# Altium schematic symbol library Demo_Board_library_SCH.SchLib: 41 symbols
Pins are listed as number, name and electrical type; pins without a type are passive.

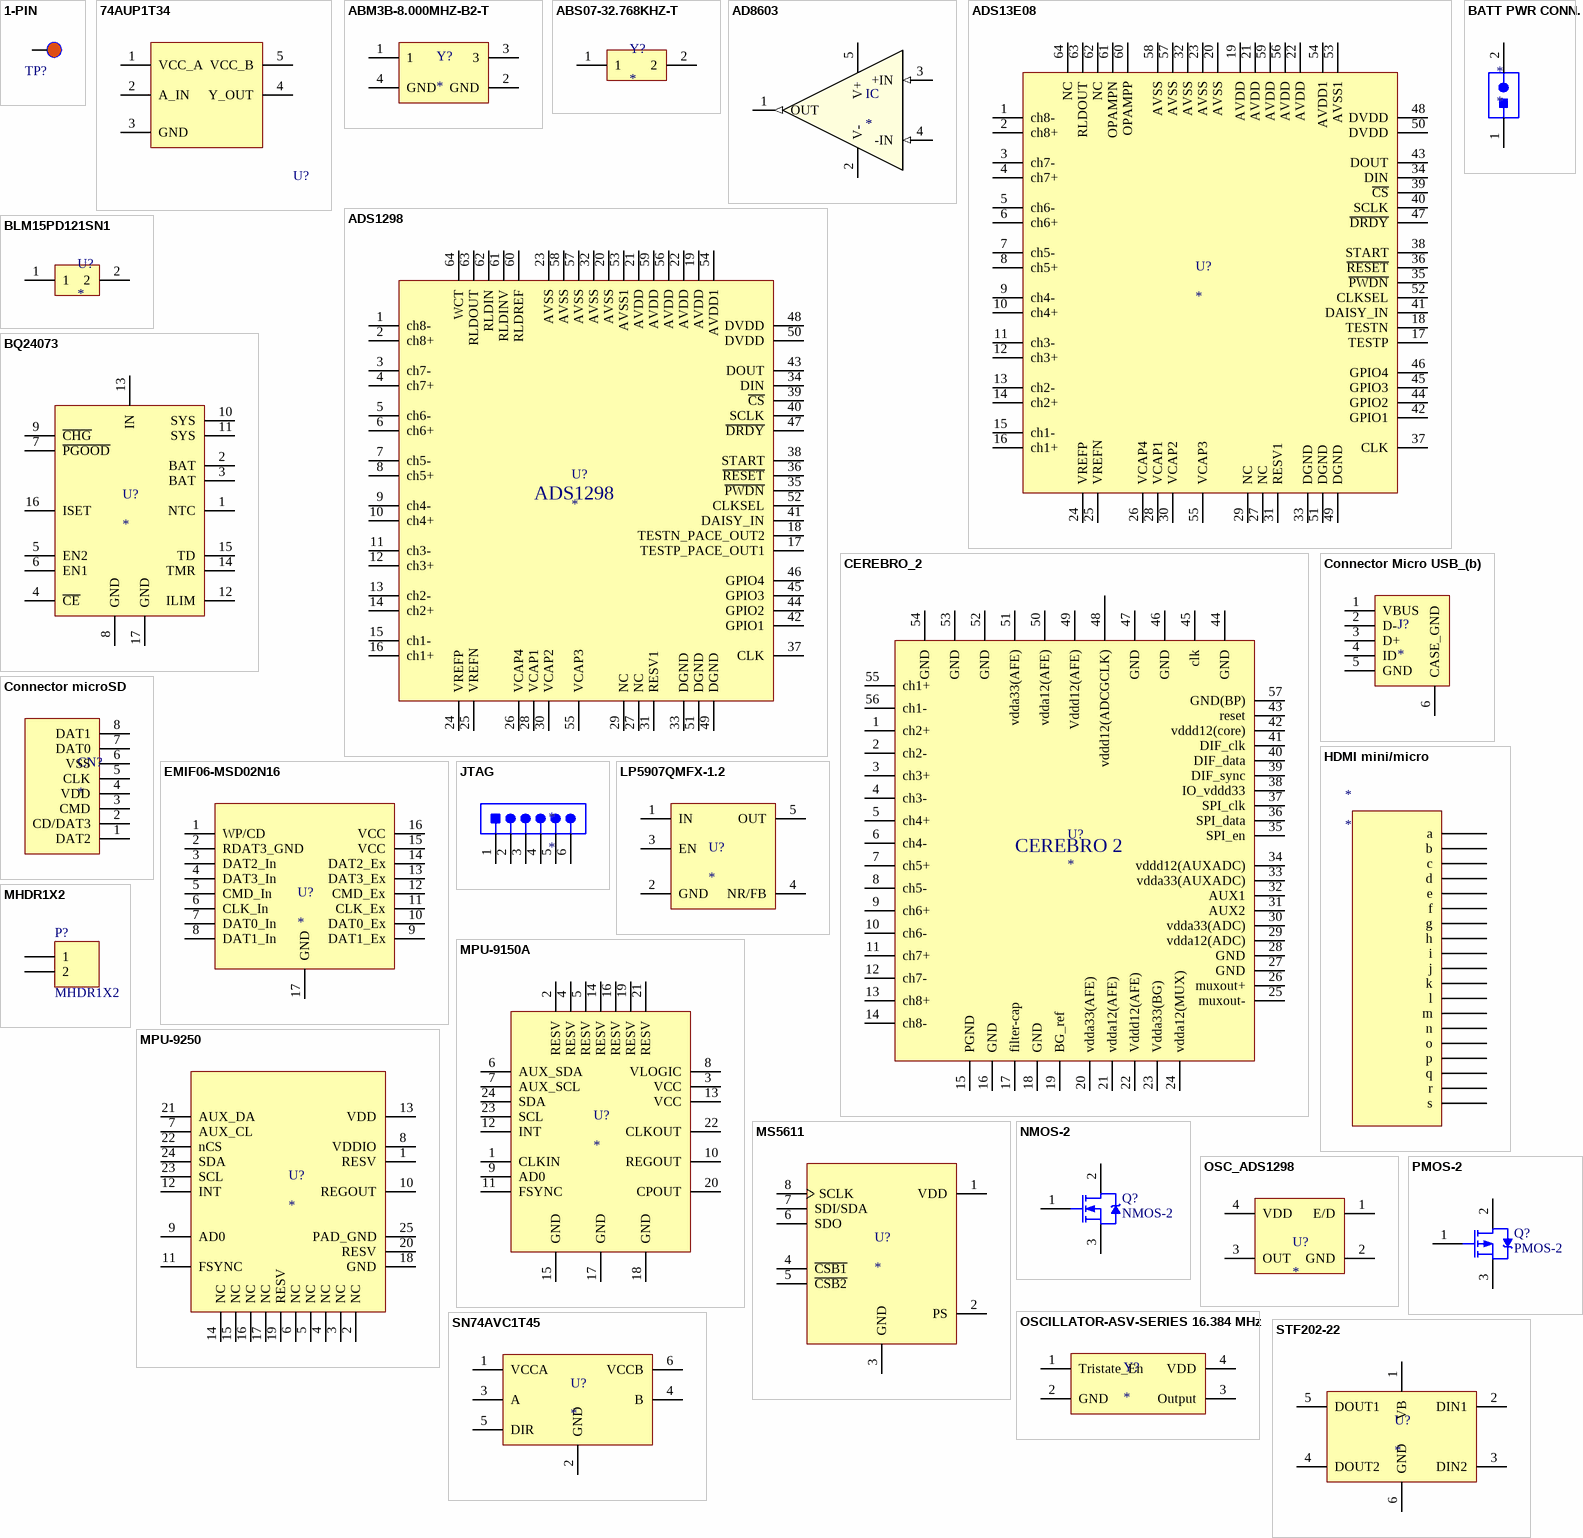
[diagram p0: symbols 1-PIN to STF202-22]

## 1-PIN
designator TP?  (value not drawn)
footprint Testpt_055
pins: 1

## 74AUP1T34
designator U?  (value not drawn)
footprint TSSOP5 (TSSOP5, 6-Leads, Body 2,05x1,23mm, Pitch 0,65mm, IPC Medium Density)
pins: 1 VCC_A, 2 A_IN, 3 GND, 4 Y_OUT, 5 VCC_B

## ABM3B-8.000MHZ-B2-T
designator Y?
ABM3B-8.000MHZ-B2-T
footprint ABM3B (Footprint oscillatore ABM3B-8.000MHZ-B2-T del micro)
pins: 1, 2 GND, 3, 4 GND

## ABS07-32.768KHZ-T
designator Y?
ABS07-32.768KHZ-T
footprint ABS07-32.768KHZ-T (ABS07-32.768KHZ-T per micro)
pins: 1, 2

## AD8603
designator IC
footprint SOT_23__DBV_(R - PDSO - G5)
pins: 1 OUT (out), 2 V- (power), 3 +IN (in), 4 -IN (in), 5 V+

## ADS13E08
designator U?
ADS13E08
footprint QFN56 (QFN, 56-Leads, Body 8.0x8.0mm (max), Pitch 0.50mm, IPC Medium Density)
pins: 1 ch8-, 2 ch8+, 3 ch7-, 4 ch7+, 5 ch6-, 6 ch6+, 7 ch5-, 8 ch5+, 9 ch4-, 10 ch4+, 11 ch3-, 12 ch3+, 13 ch2-, 14 ch2+, 15 ch1-, 16 ch1+, 17 TESTP, 18 TESTN, 19 AVDD, 20 AVSS, 21 AVDD, 22 AVDD, 23 AVSS, 24 VREFP, 25 VREFN, 26 VCAP4, 27 NC, 28 VCAP1, 29 NC, 30 VCAP2, 31 RESV1, 32 AVSS, 33 DGND, 34 DIN, 35 ~{PWDN}, 36 ~{RESET}, 37 CLK, 38 START, 39 ~{CS}, 40 SCLK, 41 DAISY_IN, 42 GPIO1, 43 DOUT, 44 GPIO2, 45 GPIO3, 46 GPIO4, 47 ~{DRDY}, 48 DVDD, 49 DGND, 50 DVDD, 51 DGND, 52 CLKSEL, 53 AVSS1, 54 AVDD1, 55 VCAP3, 56 AVDD, 57 AVSS, 58 AVSS, 59 AVDD, 60 OPAMPP, 61 OPAMPN, 62 NC, 63 RLDOUT, 64 NC

## ADS1298
designator U?
ADS1298
footprint QFN56 (QFN, 56-Leads, Body 8.0x8.0mm (max), Pitch 0.50mm, IPC Medium Density)
pins: 1 ch8-, 2 ch8+, 3 ch7-, 4 ch7+, 5 ch6-, 6 ch6+, 7 ch5-, 8 ch5+, 9 ch4-, 10 ch4+, 11 ch3-, 12 ch3+, 13 ch2-, 14 ch2+, 15 ch1-, 16 ch1+, 17 TESTP_PACE_OUT1, 18 TESTN_PACE_OUT2, 19 AVDD, 20 AVSS, 21 AVDD, 22 AVDD, 23 AVSS, 24 VREFP, 25 VREFN, 26 VCAP4, 27 NC, 28 VCAP1, 29 NC, 30 VCAP2, 31 RESV1, 32 AVSS, 33 DGND, 34 DIN, 35 ~{PWDN}, 36 ~{RESET}, 37 CLK, 38 START, 39 ~{CS}, 40 SCLK, 41 DAISY_IN, 42 GPIO1, 43 DOUT, 44 GPIO2, 45 GPIO3, 46 GPIO4, 47 ~{DRDY}, 48 DVDD, 49 DGND, 50 DVDD, 51 DGND, 52 CLKSEL, 53 AVSS1, 54 AVDD1, 55 VCAP3, 56 AVDD, 57 AVSS, 58 AVSS, 59 AVDD, 60 RLDREF, 61 RLDINV, 62 RLDIN, 63 RLDOUT, 64 WCT

## BATT PWR CONN.
designator *
footprint BATTERY POWER
pins: 1, 2

## BLM15PD121SN1
designator U?
footprint BLM15PD121SN1 (Chip Inductor, 2-Leads, Body 1,00x0,50mm, IPC Medium Density)
pins: 1, 2

## BQ24073
designator U?
Power Supply
footprint QFN-16__RGT( S-PVQFN-N16) (Footoprint BQ24073)
pins: 1 NTC, 2 BAT, 3 BAT, 4 ~{CE}, 5 EN2, 6 EN1, 7 ~{PGOOD}, 8 GND, 9 ~{CHG}, 10 SYS, 11 SYS, 12 ILIM, 13 IN, 14 TMR, 15 TD, 16 ISET, 17 GND

## CEREBRO_2
designator U?
CEREBRO
footprint QFN56 (QFN, 56-Leads, Body 8.0x8.0mm (max), Pitch 0.50mm, IPC Medium Density)
pins: 1 ch2+, 2 ch2-, 3 ch3+, 4 ch3-, 5 ch4+, 6 ch4-, 7 ch5+, 8 ch5-, 9 ch6+, 10 ch6-, 11 ch7+, 12 ch7-, 13 ch8+, 14 ch8-, 15 PGND, 16 GND, 17 filter-cap, 18 GND, 19 BG_ref, 20 vdda33(AFE), 21 vdda12(AFE), 22 Vddd12(AFE), 23 Vdda33(BG), 24 vdda12(MUX), 25 muxout-, 26 muxout+, 27 GND, 28 GND, 29 vdda12(ADC), 30 vdda33(ADC), 31 AUX2, 32 AUX1, 33 vdda33(AUXADC), 34 vddd12(AUXADC), 35 SPI_en, 36 SPI_data, 37 SPI_clk, 38 IO_vddd33, 39 DIF_sync, 40 DIF_data, 41 DIF_clk, 42 vddd12(core), 43 reset, 44 GND, 45 clk, 46 GND, 47 GND, 48 vddd12(ADCGCLK), 49 Vddd12(AFE), 50 vdda12(AFE), 51 vdda33(AFE), 52 GND, 53 GND, 54 GND, 55 ch1+, 56 ch1-, 57 GND(BP)
text: CEREBRO 2

## Connector Micro USB_(b)
designator J?
CONNECTOR MICRO USB
footprint CONNECTOR_MICRO_USB_B_TYPE (connettore micro usb B type)
pins: 1 VBUS, 2 D-, 3 D+, 4 ID, 5 GND, 6 CASE_GND

## Connector microSD
designator CN?
CONNECTOR_MICROSD
footprint CONNECTOR_MICRO_SDCARD (Connector micro sd with switches and fly out protection)
pins: 1 DAT2, 2 CD/DAT3, 3 CMD, 4 VDD, 5 CLK, 6 VSS, 7 DAT0, 8 DAT1

## EMIF06-MSD02N16
designator U?
FILTER_MICROSD
footprint micro QFN 3.5X1.2 16L (footprint EMIF06-MSD02N16)
pins: 1 WP/CD, 2 RDAT3_GND, 3 DAT2_In, 4 DAT3_In, 5 CMD_In, 6 CLK_In, 7 DAT0_In, 8 DAT1_In, 9 DAT1_Ex, 10 DAT0_Ex, 11 CLK_Ex, 12 CMD_Ex, 13 DAT3_Ex, 14 DAT2_Ex, 15 VCC, 16 VCC, 17 GND

## HDMI mini/micro
designator *
footprint new_HDMI mini/micro
pins: 0 hidden to GND, a, b, c, d, e, f, g, h, i, j, k, l, m, n, o, p, q, r, s

## JTAG
designator *
footprint JTAG
pins: 1, 2, 3, 4, 5, 6

## LP5907QMFX-1.2
designator U?
Linear Regulator
footprint SOT23__DDC__(R - PDSO-  G5)
pins: 1 IN, 2 GND, 3 EN, 4 NR/FB, 5 OUT

## MHDR1X2
designator P?
Header, 2-Pin; LatestRevisionDate: 17-Jul-2002; LatestRevisionNote: Re-released for DXP Platform.; Publisher: Altium Limited
footprint MHDR1X2 (Connector; Header; 2 Position)
signal-integrity model Connector
pins: 1, 2

## MPU-9150A
designator U?
IMU
footprint MPU-9150_component_wizard_QFN (footprint imu)
pins: 1 CLKIN, 2 RESV, 3 VCC, 4 RESV, 5 RESV, 6 AUX_SDA, 7 AUX_SCL, 8 VLOGIC, 9 AD0, 10 REGOUT, 11 FSYNC, 12 INT, 13 VCC, 14 RESV, 15 GND, 16 RESV, 17 GND, 18 GND, 19 RESV, 20 CPOUT, 21 RESV, 22 CLKOUT, 23 SCL, 24 SDA

## MPU-9250
designator U?
IMU
footprint MPU-9150_component_wizard_QFN (footprint imu)
pins: 1 RESV, 2 NC, 3 NC, 4 NC, 5 NC, 6 NC, 7 AUX_CL, 8 VDDIO, 9 AD0, 10 REGOUT, 11 FSYNC, 12 INT, 13 VDD, 14 NC, 15 NC, 16 NC, 17 NC, 18 GND, 19 RESV, 20 RESV, 21 AUX_DA, 22 nCS, 23 SCL, 24 SDA, 25 PAD_GND

## MS5611
designator U?
SENSORE PRESSIONE
footprint MS5611-01BA03 (footprint sensore pressione)
pins: 1 VDD, 2 PS, 3 GND, 4 ~{CSB1}, 5 ~{CSB2}, 6 SDO, 7 SDI/SDA, 8 SCLK

## NMOS-2
designator Q?
N-Channel Power MOSFET; Note: Pin 2 is electrically connected to pin 4.; Published: 8-Jun-2000; LatestRevisionDate: 17-Jul-2002; LatestRevisionNote: Re-released for DXP Platform.; DatasheetVersion: PD-9.814; PackageVersion: Feb-1997; PackageReference: TO-220AB; Publisher: Altium Limited; PackageDescription: TO, Thru-Hole, Vertical, Heatsink Mounted; 3 In-Line Leads; Pitch 2.54 mm; ComponentLink1Description: Manufacturer Link; ComponentLink1URL: http://www.irf.com/
footprint SOT23__fdn (Footprint PMOS ed NMOS Misurazione batteria)
simulation model IRF1010 (Spice Subcircuit)
pins: 1 G, 2 D, 3 S

## OSC_ADS1298
designator U?
Linear Regulator
footprint SOT23__DDC__(R - PDSO-  G5)
pins: 1 E/D, 2 GND, 3 OUT, 4 VDD

## OSCILLATOR-ASV-SERIES 16.384 MHz
designator Y?
OSCILLATOR-ASV-SERIES 16.384 MHz
footprint ABRACON_ASV series (Oscillatore CEREBRO)
pins: 1 Tristate_En, 2 GND, 3 Output, 4 VDD

## PMOS-2
designator Q?
P-Channel Power MOSFET; Note: Pin 4 not drawn and electrically connected to Pin 2.; Published: 8-Jun-2000; LatestRevisionDate: 17-Jul-2002; LatestRevisionNote: Re-released for DXP Platform.; DatasheetVersion: PD-9.390D; PackageVersion: Feb-1997; PackageReference: TO-220AB; Publisher: Altium Limited; PackageDescription: TO, Thru-Hole, Vertical, Heatsink Mounted; 3 In-Line Leads; Pitch 2.54 mm; ComponentLink1Description: Manufacturer Link; ComponentLink1URL: http://www.irf.com/
footprint TO-220AB (TO, Thru-Hole, Vertical, Heatsink Mounted; 3 In-Line Leads; Pitch 2.54 mm)
simulation model IRF9510 (Spice Subcircuit)
footprint SOT23__fdn (Footprint PMOS ed NMOS Misurazione batteria)
pins: 1 G, 2 D, 3 S

## SN74AVC1T45
designator U?
footprint SOT23__DBV_(R - PDSO - G6)
pins: 1 VCCA, 2 GND, 3 A, 4 B, 5 DIR, 6 VCCB

## STF202-22
designator U?
USB FILTER
footprint SOT23__DBV_(R - PDSO - G6)
pins: 1 VB, 2 DIN1, 3 DIN2, 4 DOUT2, 5 DOUT1, 6 GND

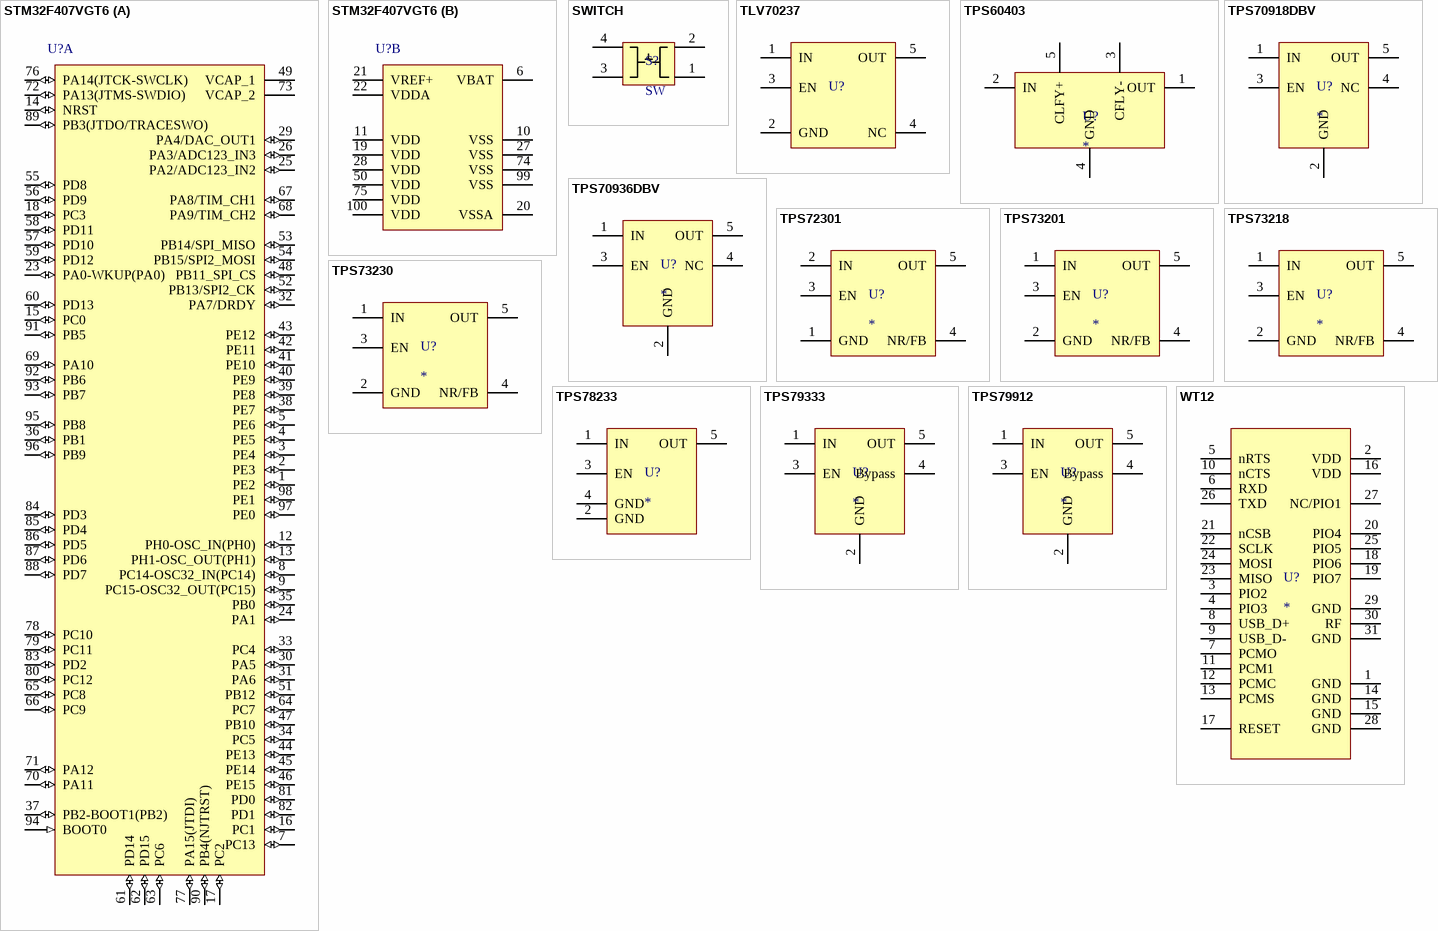
[diagram p1: symbols STM32F407VGT6 to WT12]

## STM32F407VGT6
designator U?
ARM Cortex-M4 32-bit MCU+FPU, 210 DMIPS, 1024 kB Flash, 192 kB Internal RAM, 82 I/Os, 100-pin LQFP, -40 to 85 degC, Tray; Manufacturer: STMicroelectronics; PartNumber: STM32F407VGT6; D/A Converter: 2x12-bit; FLASH Size (Prog) (kB): 1024; I/Os (High Current): 82; Internal RAM Size (kB): 192; Operating Frequency(F) (Processor speed) (MHz): 168; Supply Voltage(Vcc) max (V): 3.6; Supply Voltage(Vcc) min (V): 1.8; DatasheetVersion: Rev. 4; PackageVersion: Rev. 1, 06/2013; PackageReference: LQFP100; PackageDescription: 100-Pin Low Profile Quad Flat Package, 14 x 14 mm Body, 0.5 mm Pitch; Supplier 1: Digi-Key; Supplier Part Number 1: 497-11605-ND; Supplier 2: Farnell; Supplier Part Number 2: 2064368; Supplier 3: Newark; Supplier Part Number 3: 73T2333; Supplier 4: Mouser; Supplier Part Number 4: 511-STM32F407VGT6; Core: ARM Cortex-M4; Packing: Tray; Mounting Technology: Surface Mount; ComponentLink1Description: Manufacturer URL; ComponentLink1URL: http://www.st.com/web/en/home.html; ComponentLink2Description: Datasheet; ComponentLink2URL: http://www.st.com/st-web-ui/static/active/en/resource/technical/document/datasheet/DM00037051.pdf; ComponentLink3Description: Package Specification; ComponentLink3URL: http://www.st.com/st-web-ui/static/active/en/resource/technical/document/data_brief/DM00071938.pdf
footprint STM-LQFP100_L (Thin QFP, 100-Leads, Body 14x14mm, Pitch 0.5mm, IPC High Density)
footprint STM-LQFP100_L (Thin QFP, 100-Leads, Body 14x14mm, Pitch 0.5mm, IPC High Density)
footprint STM-LQFP100_M (Thin QFP, 100-Leads, Body 14x14mm, Pitch 0.5mm, IPC Low Density)
footprint STM-LQFP100_V (Thin QFP, 100-Leads, Body 14x14mm, Pitch 0.5mm, ST Recommended)
part A pins: 1 PE2 (io) "PE2/TRACECLK/FSMC_A23/ETH_MII_TXD3/EVENTOUT", 2 PE3 (io) "PE3/TRACED0/FSMC_A19/EVENTOUT", 3 PE4 (io) "PE4/TRACED1/FSMC_A20/DCMI_D4/EVENTOUT", 4 PE5 (io) "PE5/TRACED2/FSMC_A21/TIM9_CH1/DCMI_D6/EVENTOUT", 5 PE6 (io) "PE6/TRACED3/FSMC_A22/TIM9_CH2/DCMI_D7/EVENTOUT", 7 PC13 (io) "PC13/EVENTOUT/RTC_OUT,RTC_TAMP1,RTC_TS", 8 PC14-OSC32_IN(PC14) (io) "PC14-OSC32_IN(PC14)/EVENTOUT/OSC32_IN", 9 PC15-OSC32_OUT(PC15) (io) "PC15-OSC32_OUT(PC15)/EVENTOUT/OSC32_OUT", 12 PH0-OSC_IN(PH0) (io) "PH0-OSC_IN(PH0)/EVENTOUT/OSC_IN", 13 PH1-OSC_OUT(PH1) (io) "PH1-OSC_OUT(PH1)/EVENTOUT/OSC_OUT", 14 NRST (io), 15 PC0 (io) "PC0/OTG_HS_ULPI_STP/EVENTOUT/ADC123_IN10", 16 PC1 (io) "PC1/ETH_MDC/EVENTOUT/ADC123_IN11", 17 PC2 (io) "PC2/SPI2_MISO/OTG_HS_ULPI_DIR/ETH_MII_TXD2/I2S2ext_SD/EVENTOUT/ADC123_IN12", 18 PC3 (io) "PC3/SPI2_MOSI/I2S2_SD/OTG_HS_ULPI_NXT/ETH_MII_TX_CLK/EVENTOUT/ADC123_IN13", 23 PA0-WKUP(PA0) (io) "PA0-WKUP(PA0)/USART2_CTS/UART4_TX/ETH_MII_CRS/TIM2_CH1_ETR/TIM5_CH1/TIM8_ETR/EVENTOUT/ADC123_IN0/WKUP", 24 PA1 (io) "PA1/USART2_RTS/UART4_RX/ETH_RMII_REF_CLK/ETH_MII_RX_CLK/TIM5_CH2/TIM2_CH2/EVENTOUT/ADC123_IN1", 25 PA2/ADC123_IN2 (io) "PA2/USART2_TX/TIM5_CH3/TIM9_CH1/TIM2_CH3/ETH_MDIO/EVENTOUT/ADC123_IN2", 26 PA3/ADC123_IN3 (io) "PA3/USART2_RX/TIM5_CH4/TIM9_CH2/TIM2_CH4/OTG_HS_ULPI_D0/ETH_MII_COL/EVENTOUT/ADC123_IN3", 29 PA4/DAC_OUT1 (io) "PA4/SPI1_NSS/SPI3_NSS/USART2_CK/DCMI_HSYNC/OTG_HS_SOF/I2S3_WS/EVENTOUT/ADC12_IN4/DAC_OUT1", 30 PA5 (io) "PA5/SPI1_SCK/OTG_HS_ULPI_CK/TIM2_CH1_ETR/TIM8_CH1N/EVENTOUT/ADC12_IN5/DAC_OUT2", 31 PA6 (io) "PA6/SPI1_MISO/TIM8_BKIN/TIM13_CH1/DCMI_PIXCLK/TIM3_CH1/TIM1_BKIN/EVENTOUT/ADC12_IN6", 32 PA7/DRDY (io) "PA7/SPI1_MOSI/TIM8_CH1N/TIM14_CH1/TIM3_CH2/ETH_MII_RX_DV/TIM1_CH1N/ETH_RMII_CRS_DV/EVENTOUT/ADC12_IN7", 33 PC4 (io) "PC4/ETH_RMII_RX_D0/ETH_MII_RX_D0/EVENTOUT/ADC12_IN14", 34 PC5 (io) "PC5/ETH_RMII_RX_D1/ETH_MII_RX_D1/EVENTOUT/ADC12_IN15", 35 PB0 (io) "PB0/TIM3_CH3/TIM8_CH2N/OTG_HS_ULPI_D1/ETH_MII_RXD2/TIM1_CH2N/EVENTOUT/ADC12_IN8", 36 PB1 (io) "PB1/TIM3_CH4/TIM8_CH3N/OTG_HS_ULPI_D2/ETH_MII_RXD3/TIM1_CH3N/EVENTOUT/ADC12_IN9", 37 PB2-BOOT1(PB2) (io) "PB2-BOOT1(PB2)/EVENTOUT", 38 PE7 (io) "PE7/FSMC_D4/TIM1_ETR/EVENTOUT", 39 PE8 (io) "PE8/FSMC_D5/TIM1_CH1N/EVENTOUT", 40 PE9 (io) "PE9/FSMC_D6/TIM1_CH1/EVENTOUT", 41 PE10 (io) "PE10/FSMC_D7/TIM1_CH2N/EVENTOUT", 42 PE11 (io) "PE11/FSMC_D8/TIM1_CH2/EVENTOUT", 43 PE12 (io) "PE12/FSMC_D9/TIM1_CH3N/EVENTOUT", 44 PE13 (io) "PE13/FSMC_D10/TIM1_CH3/EVENTOUT", 45 PE14 (io) "PE14/FSMC_D11/TIM1_CH4/EVENTOUT", 46 PE15 (io) "PE15/FSMC_D12/TIM1_BKIN/EVENTOUT", 47 PB10 (io) "PB10/SPI2_SCK/I2S2_CK/I2C2_SCL/USART3_TX/OTG_HS_ULPI_D3/ETH_MII_RX_ER/TIM2_CH3/EVENTOUT", 48 PB11_SPI_CS (io) "PB11/I2C2_SDA/USART3_RX/OTG_HS_ULPI_D4/ETH_RMII_TX_EN/ETH_MII_TX_EN/TIM2_CH4/EVENTOUT", 49 VCAP_1 (power), 51 PB12 (io) "PB12/SPI2_NSS/I2S2_WS/I2C2_SMBA/USART3_CK/TIM1_BKIN/CAN2_RX/OTG_HS_ULPI_D5/ETH_RMII_TXD0/ETH_MII_TXD0/OTG_HS_ID/EVENTOUT", 52 PB13/SPI2_CK (io) "PB13/SPI2_SCK/I2S2_CK/USART3_CTS/TIM1_CH1N/CAN2_TX/OTG_HS_ULPI_D6/ETH_RMII_TXD1/ETH_MII_TXD1/EVENTOUT/OTG_HS_VBUS", 53 PB14/SPI_MISO (io) "PB14/SPI2_MISO/TIM1_CH2N/TIM12_CH1/OTG_HS_DM/USART3_RTS/TIM8_CH2N/I2S2ext_SD/EVENTOUT", 54 PB15/SPI2_MOSI (io) "PB15/SPI2_MOSI/I2S2_SD/TIM1_CH3N/TIM8_CH3N/TIM12_CH2/OTG_HS_DP/EVENTOUT/RTC_REFIN", 55 PD8 (io) "PD8/FSMC_D13/USART3_TX/EVENTOUT", 56 PD9 (io) "PD9/FSMC_D14/USART3_RX/EVENTOUT", 57 PD10 (io) "PD10/FSMC_D15/USART3_CK/EVENTOUT", 58 PD11 (io) "PD11/FSMC_CLE/FSMC_A16/USART3_CTS/EVENTOUT", 59 PD12 (io) "PD12/FSMC_ALE/FSMC_A17/TIM4_CH1/USART3_RTS/EVENTOUT", 60 PD13 (io) "PD13/FSMC_A18/TIM4_CH2/EVENTOUT", 61 PD14 (io) "PD14/FSMC_D0/TIM4_CH3/EVENTOUT", 62 PD15 (io) "PD15/FSMC_D1/TIM4_CH4/EVENTOUT", 63 PC6 (io) "PC6/I2S2_MCK/TIM8_CH1/SDIO_D6/USART6_TX/DCMI_D0/TIM3_CH1/EVENTOUT", 64 PC7 (io) "PC7/I2S3_MCK/TIM8_CH2/SDIO_D7/USART6_RX/DCMI_D1/TIM3_CH2/EVENTOUT", 65 PC8 (io) "PC8/TIM8_CH3/SDIO_D0/TIM3_CH3/USART6_CK/DCMI_D2/EVENTOUT", 66 PC9 (io) "PC9/I2S_CKIN/MCO2/TIM8_CH4/SDIO_D1/I2C3_SDA/DCMI_D3/TIM3_CH4/EVENTOUT", 67 PA8/TIM_CH1 (io) "PA8/MCO1/USART1_CK/TIM1_CH1/I2C3_SCL/OTG_FS_SOF/EVENTOUT", 68 PA9/TIM_CH2 (io) "PA9/USART1_TX/TIM1_CH2/I2C3_SMBA/DCMI_D0/EVENTOUT/OTG_FS_VBUS", 69 PA10 (io) "PA10/USART1_RX/TIM1_CH3/OTG_FS_ID/DCMI_D1/EVENTOUT", 70 PA11 (io) "PA11/USART1_CTS/CAN1_RX/TIM1_CH4/OTG_FS_DM/EVENTOUT", 71 PA12 (io) "PA12/USART1_RTS/CAN1_TX/TIM1_ETR/OTG_FS_DP/EVENTOUT", 72 PA13(JTMS-SWDIO) (io) "PA13(JTMS-SWDIO)/JTMS-SWDIO/EVENTOUT", 73 VCAP_2 (power), 76 PA14(JTCK-SWCLK) (io) "PA14(JTCK-SWCLK)/JTCK-SWCLK/EVENTOUT", 77 PA15(JTDI) (io) "PA15(JTDI)/JTDI/SPI3_NSS/I2S3_WS/TIM2_CH1_ETR/SPI1_NSS/EVENTOUT", 78 PC10 (io) "PC10/SPI3_SCK/I2S3_CK/UART4_TX/SDIO_D2/DCMI_D8/USART3_TX/EVENTOUT", 79 PC11 (io) "PC11/UART4_RX/SPI3_MISO/SDIO_D3/DCMI_D4/USART3_RX/I2S3ext_SD/EVENTOUT", 80 PC12 (io) "PC12/UART5_TX/SDIO_CK/DCMI_D9/SPI3_MOSI/I2S3_SD/USART3_CK/EVENTOUT", 81 PD0 (io) "PD0/FSMC_D2/CAN1_RX/EVENTOUT", 82 PD1 (io) "PD1/FSMC_D3/CAN1_TX/EVENTOUT", 83 PD2 (io) "PD2/TIM3_ETR/UART5_RX/SDIO_CMD/DCMI_D11/EVENTOUT", 84 PD3 (io) "PD3/FSMC_CLK/USART2_CTS/EVENTOUT", 85 PD4 (io) "PD4/FSMC_NOE/USART2_RTS/EVENTOUT", 86 PD5 (io) "PD5/FSMC_NWE/USART2_TX/EVENTOUT", 87 PD6 (io) "PD6/FSMC_NWAIT/USART2_RX/EVENTOUT", 88 PD7 (io) "PD7/USART2_CK/FSMC_NE1/FSMC_NCE2/EVENTOUT", 89 PB3(JTDO/TRACESWO) (io) "PB3(JTDO/TRACESWO)/JTDO/TRACESWO/SPI3_SCK/I2S3_CK/TIM2_CH2/SPI1_SCK/EVENTOUT", 90 PB4(NJTRST) (io) "PB4(NJTRST)/NJTRST/SPI3_MISO/TIM3_CH1/SPI1_MISO/I2S3ext_SD/EVENTOUT", 91 PB5 (io) "PB5/I2C1_SMBA/CAN2_RX/OTG_HS_ULPI_D7/ETH_PPS_OUT/TIM3_CH2/SPI1_MOSI/SPI3_MOSI/DCMI_D10/I2S3_SD/EVENTOUT", 92 PB6 (io) "PB6/I2C1_SCL/TIM4_CH1/CAN2_TX/DCMI_D5/USART1_TX/EVENTOUT", 93 PB7 (io) "PB7/I2C1_SDA/FSMC_NL/DCMI_VSYNC/USART1_RX/TIM4_CH2/EVENTOUT", 94 BOOT0 (in) "BOOT0/VPP", 95 PB8 (io) "PB8/TIM4_CH3/SDIO_D4/TIM10_CH1/DCMI_D6/ETH_MII_TXD3/I2C1_SCL/CAN1_RX/EVENTOUT", 96 PB9 (io) "PB9/SPI2_NSS/I2S2_WS/TIM4_CH4/TIM11_CH1/SDIO_D5/DCMI_D7/I2C1_SDA/CAN1_TX/EVENTOUT", 97 PE0 (io) "PE0/TIM4_ETR/FSMC_NBL0/DCMI_D2/EVENTOUT", 98 PE1 (io) "PE1/FSMC_NBL1/DCMI_D3/EVENTOUT"
part B pins: 6 VBAT (power), 10 VSS (power), 11 VDD (power), 19 VDD (power), 20 VSSA (power), 21 VREF+ (power), 22 VDDA (power), 27 VSS (power), 28 VDD (power), 50 VDD (power), 74 VSS (power), 75 VDD (power), 99 VSS (power), 100 VDD (power)

## SWITCH
designator S?, comment SW
switch
footprint Switch (TL303  switch smd)
pins: 1, 2, 3, 4

## TLV70237
designator U?  (value not drawn)
Linear Regulator
footprint SOT23__DDC__(R - PDSO-  G5)
pins: 1 IN, 2 GND, 3 EN, 4 NC, 5 OUT

## TPS60403
designator U?
Linear Regulator
footprint SOT23__DDC__(R - PDSO-  G5)
pins: 1 OUT, 2 IN, 3 CFLY-, 4 GND, 5 CLFY+

## TPS70918DBV
designator U?
Regulator
footprint SOT_23__DBV_(R - PDSO - G5)
pins: 1 IN, 2 GND, 3 EN, 4 NC, 5 OUT

## TPS70936DBV
designator U?
Regulator
footprint SOT_23__DBV_(R - PDSO - G5)
pins: 1 IN, 2 GND, 3 EN, 4 NC, 5 OUT

## TPS72301
designator U?
Linear Regulator
footprint SOT23__DDC__(R - PDSO-  G5)
pins: 1 GND, 2 IN, 3 EN, 4 NR/FB, 5 OUT

## TPS73201
designator U?
Linear Regulator
footprint SOT23__DDC__(R - PDSO-  G5)
pins: 1 IN, 2 GND, 3 EN, 4 NR/FB, 5 OUT

## TPS73218
designator U?
Linear Regulator
footprint SOT23__DDC__(R - PDSO-  G5)
pins: 1 IN, 2 GND, 3 EN, 4 NR/FB, 5 OUT

## TPS73230
designator U?
Linear Regulator
footprint SOT23__DDC__(R - PDSO-  G5)
pins: 1 IN, 2 GND, 3 EN, 4 NR/FB, 5 OUT

## TPS78233
designator U?
Linear Regulator
footprint SOT23__DDC__(R - PDSO-  G5)
pins: 1 IN, 2 GND, 3 EN, 4 GND, 5 OUT

## TPS79333
designator U?
Regulator
footprint SOT_23__DBV_(R - PDSO - G5)
pins: 1 IN, 2 GND, 3 EN, 4 Bypass, 5 OUT

## TPS79912
designator U?
regulator
footprint SOT23__DDC__(R - PDSO-  G5)
pins: 1 IN, 2 GND, 3 EN, 4 Bypass, 5 OUT

## WT12
designator U?
BLUETOOTH
footprint WT12 (Footprint BTOOTH)
pins: 1 GND, 2 VDD, 3 PIO2, 4 PIO3, 5 nRTS, 6 RXD, 7 PCMO, 8 USB_D+, 9 USB_D-, 10 nCTS, 11 PCM1, 12 PCMC, 13 PCMS, 14 GND, 15 GND, 16 VDD, 17 RESET, 18 PIO6, 19 PIO7, 20 PIO4, 21 nCSB, 22 SCLK, 23 MISO, 24 MOSI, 25 PIO5, 26 TXD, 27 NC/PIO1, 28 GND, 29 GND, 30 RF, 31 GND